# EAGLE library part 50238-018 (library con-aces-50238-series)
ACES CONNECTORS 50238 SERIES ACES Connecors 50238 <https://www.acesconn.com/tw/series/50238-xxxxx-xxx/1290>
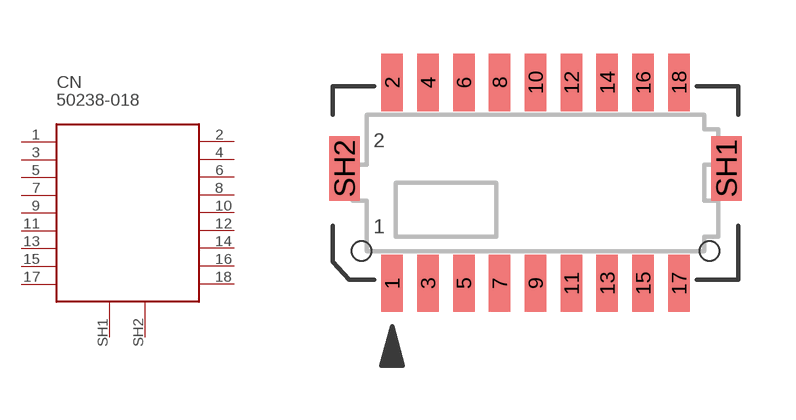
[diagram p5: symbol with the pads of 50238-018; footprint 50238-018]

Designator prefix CN

## 50238-018  [50238-018]
1  1
2  2
3  3
4  4
5  5
6  6
7  7
8  8
9  9
10  10
11  11
12  12
13  13
14  14
15  15
16  16
17  17
18  18
SH1  SH1
SH2  SH2

## Footprint 50238-018 (pad centres in mm)
smd 0.6 x 1.6: 1 -4,-2.8; 2 -4,2.8; 3 -3,-2.8; 4 -3,2.8; 5 -2,-2.8; 6 -2,2.8; 7 -1,-2.8; 8 -1,2.8; 9 0,-2.8; 10 0,2.8; 11 1,-2.8; 12 1,2.8; 13 2,-2.8; 14 2,2.8; 15 3,-2.8; 16 3,2.8; 17 4,-2.8; 18 4,2.8
smd 0.85 x 1.8: SH1 5.325,0.4; SH2 -5.325,0.4
hole 0.55 at -4.85,-1.9
hole 0.55 at 4.85,-1.9